# EAGLE library part DS1085 (library F030NG)
EconOscillator Frequency Synthesizer by Maxim Integrated Inc.
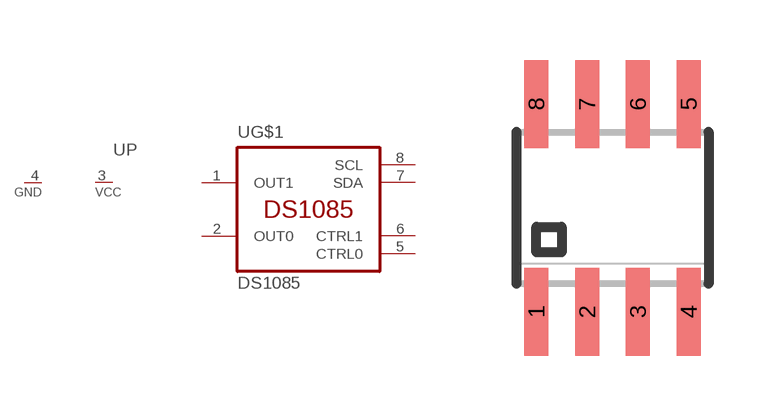
[diagram p81: symbol with the pads of SO08; footprint SO08]

Designator prefix U; gates P=1VCC_1GND G$1=DS1085

## DS1085D  [SO08]
1  G$1:OUT1  out
2  G$1:OUT0  out
3  P:VCC  pwr
4  P:GND  pwr
5  G$1:CTRL0  out
6  G$1:CTRL1  out
7  G$1:SDA
8  G$1:SCL

## Footprint SO08 (pad centres in mm)
SMALL OUTLINE INTEGRATED CIRCUIT body 3.9 mm/JEDEC MS-012AA
smd 0.6 x 2.2: 1 -1.905,-2.6; 2 -0.635,-2.6; 3 0.635,-2.6; 4 1.905,-2.6; 5 1.905,2.6; 6 0.635,2.6; 7 -0.635,2.6; 8 -1.905,2.6